# Altium schematic symbol library spacemonochrome-WR_TBL.SchLib: 1696 symbols (part 9 of 28)
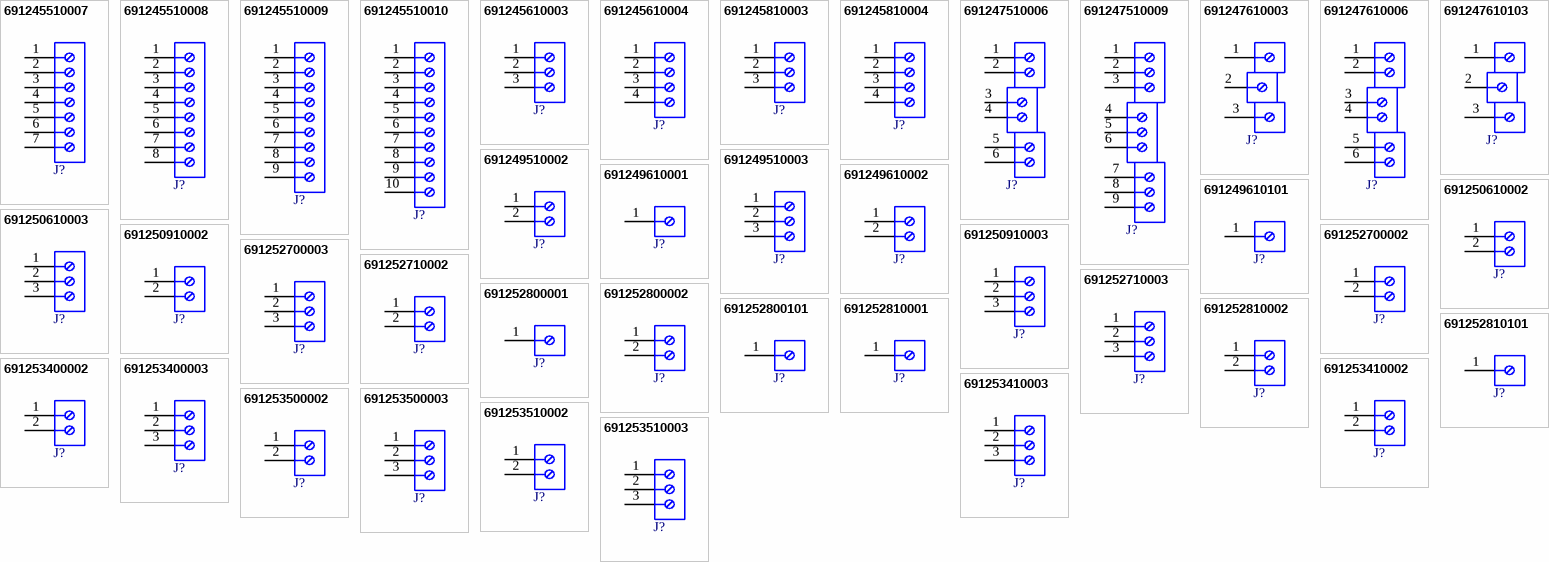
[diagram p50: symbols 691245510007 to 691253510003]

## 691252700002
designator J?  (value not drawn)
WR-TBL Series 2527 Vertical Entry Modular, THT, pitch 5mm, 2p; Manufacturer: Wurth Elektronik; Modularity: Yes; Rated Current: 16A; Working Voltage: 300V; ComponentLink1Description: Website Link; ComponentLink1URL: https://www.we-online.com/redexpert/article/691252700002?ad; ComponentLink2Description: Datasheet Link; ComponentLink2URL: https://www.we-online.com/redexpert/spec/691252700002?ad; Manufacturer Part Number: 691252700002; Category: Terminal Blocks; Match Code: WR-TBL; Mount: Through Hole; Operating Temperature Max: 120°C; Operating Temperature Min: -30°C; Packaging: Box; Application: Rising Cage Clamp; Number of Pins: 2; Number of Rows: 1; Orientation: Vertical; Pitch: 5mm
footprint 691252700002
pins: 1, 2

## 691252700003
designator J?  (value not drawn)
WR-TBL Series 2527 Vertical Entry Modular, THT, pitch 5mm, 3p; Manufacturer: Wurth Elektronik; Modularity: Yes; Rated Current: 16A; Working Voltage: 300V; ComponentLink1Description: Website Link; ComponentLink1URL: https://www.we-online.com/redexpert/article/691252700003?ad; ComponentLink2Description: Datasheet Link; ComponentLink2URL: https://www.we-online.com/redexpert/spec/691252700003?ad; Manufacturer Part Number: 691252700003; Category: Terminal Blocks; Match Code: WR-TBL; Mount: Through Hole; Operating Temperature Max: 120°C; Operating Temperature Min: -30°C; Packaging: Box; Application: Rising Cage Clamp; Number of Pins: 3; Number of Rows: 1; Orientation: Vertical; Pitch: 5mm
footprint 691252700003
pins: 1, 2, 3

## 691252710002
designator J?  (value not drawn)
WR-TBL Series 2527 Horizontal Entry Modular, THT, pitch 5mm, 2p; Manufacturer: Wurth Elektronik; Modularity: Yes; Rated Current: 16A; Working Voltage: 300V; ComponentLink1Description: Website Link; ComponentLink1URL: https://www.we-online.com/redexpert/article/691252710002?ad; ComponentLink2Description: Datasheet Link; ComponentLink2URL: https://www.we-online.com/redexpert/spec/691252710002?ad; Manufacturer Part Number: 691252710002; Category: Terminal Blocks; Match Code: WR-TBL; Mount: Through Hole; Operating Temperature Max: 120°C; Operating Temperature Min: -30°C; Packaging: Box; Application: Rising Cage Clamp; Number of Pins: 2; Number of Rows: 1; Orientation: Horizontal; Pitch: 5mm
footprint 691252710002
pins: 1, 2

## 691252710003
designator J?  (value not drawn)
WR-TBL Series 2527 Horizontal Entry Modular, THT, pitch 5mm, 3p; Manufacturer: Wurth Elektronik; Modularity: Yes; Rated Current: 16A; Working Voltage: 300V; ComponentLink1Description: Website Link; ComponentLink1URL: https://www.we-online.com/redexpert/article/691252710003?ad; ComponentLink2Description: Datasheet Link; ComponentLink2URL: https://www.we-online.com/redexpert/spec/691252710003?ad; Manufacturer Part Number: 691252710003; Category: Terminal Blocks; Match Code: WR-TBL; Mount: Through Hole; Operating Temperature Max: 120°C; Operating Temperature Min: -30°C; Packaging: Box; Application: Rising Cage Clamp; Number of Pins: 3; Number of Rows: 1; Orientation: Horizontal; Pitch: 5mm
footprint 691252710003
pins: 1, 2, 3

## 691252800001
designator J?  (value not drawn)
WR-TBL Series 2528 Vertical Entry Modular, THT, pitch 10mm, 1p; Manufacturer: Wurth Elektronik; Modularity: Yes; Rated Current: 16A; Working Voltage: 300V; ComponentLink1Description: Website Link; ComponentLink1URL: https://www.we-online.com/redexpert/article/691252800001?ad; ComponentLink2Description: Datasheet Link; ComponentLink2URL: https://www.we-online.com/redexpert/spec/691252800001?ad; Manufacturer Part Number: 691252800001; Category: Terminal Blocks; Match Code: WR-TBL; Mount: Through Hole; Operating Temperature Max: 120°C; Operating Temperature Min: -30°C; Packaging: Box; Application: Rising Cage Clamp; Number of Pins: 1; Number of Rows: 1; Orientation: Vertical; Pitch: 10mm
footprint 691252800001
pins: 1

## 691252800002
designator J?  (value not drawn)
WR-TBL Series 2528 Vertical Entry Modular, THT, pitch 10mm, 2p; Manufacturer: Wurth Elektronik; Modularity: Yes; Rated Current: 16A; Working Voltage: 300V; ComponentLink1Description: Website Link; ComponentLink1URL: https://www.we-online.com/redexpert/article/691252800002?ad; ComponentLink2Description: Datasheet Link; ComponentLink2URL: https://www.we-online.com/redexpert/spec/691252800002?ad; Manufacturer Part Number: 691252800002; Category: Terminal Blocks; Match Code: WR-TBL; Mount: Through Hole; Operating Temperature Max: 120°C; Operating Temperature Min: -30°C; Packaging: Box; Application: Rising Cage Clamp; Number of Pins: 2; Number of Rows: 1; Orientation: Vertical; Pitch: 10mm
footprint 691252800002
pins: 1, 2

## 691252800101
designator J?  (value not drawn)
WR-TBL Series 2528 Vertical Entry Modular, THT, pitch 10mm, 1p; Manufacturer: Wurth Elektronik; Modularity: Yes; Rated Current: 16A; Working Voltage: 300V; ComponentLink1Description: Website Link; ComponentLink1URL: https://www.we-online.com/redexpert/article/691252800101?ad; ComponentLink2Description: Datasheet Link; ComponentLink2URL: https://www.we-online.com/redexpert/spec/691252800101?ad; Manufacturer Part Number: 691252800101; Category: Terminal Blocks; Match Code: WR-TBL; Mount: Through Hole; Operating Temperature Max: 120°C; Operating Temperature Min: -30°C; Packaging: Box; Application: Rising Cage Clamp; Number of Pins: 1; Number of Rows: 1; Orientation: Vertical; Pitch: 10mm
footprint 691252800101
pins: 1

## 691252810001
designator J?  (value not drawn)
WR-TBL Series 2528 Horizontal Entry Modular, THT, pitch 10mm, 1p; Manufacturer: Wurth Elektronik; Modularity: Yes; Rated Current: 16A; Working Voltage: 300V; ComponentLink1Description: Website Link; ComponentLink1URL: https://www.we-online.com/redexpert/article/691252810001?ad; ComponentLink2Description: Datasheet Link; ComponentLink2URL: https://www.we-online.com/redexpert/spec/691252810001?ad; Manufacturer Part Number: 691252810001; Category: Terminal Blocks; Match Code: WR-TBL; Mount: Through Hole; Operating Temperature Max: 120°C; Operating Temperature Min: -30°C; Packaging: Box; Application: Rising Cage Clamp; Number of Pins: 1; Number of Rows: 1; Orientation: Horizontal; Pitch: 10mm
footprint 691252810001
pins: 1

## 691252810002
designator J?  (value not drawn)
WR-TBL Series 2528 Horizontal Entry Modular, THT, pitch 10mm, 2p; Manufacturer: Wurth Elektronik; Modularity: Yes; Rated Current: 16A; Working Voltage: 300V; ComponentLink1Description: Website Link; ComponentLink1URL: https://www.we-online.com/redexpert/article/691252810002?ad; ComponentLink2Description: Datasheet Link; ComponentLink2URL: https://www.we-online.com/redexpert/spec/691252810002?ad; Manufacturer Part Number: 691252810002; Category: Terminal Blocks; Match Code: WR-TBL; Mount: Through Hole; Operating Temperature Max: 120°C; Operating Temperature Min: -30°C; Packaging: Box; Application: Rising Cage Clamp; Number of Pins: 2; Number of Rows: 1; Orientation: Horizontal; Pitch: 10mm
footprint 691252810002
pins: 1, 2

## 691252810101
designator J?  (value not drawn)
WR-TBL Series 2528 Horizontal Entry Modular, THT, pitch 10mm, 1p; Manufacturer: Wurth Elektronik; Modularity: Yes; Rated Current: 16A; Working Voltage: 300V; ComponentLink1Description: Website Link; ComponentLink1URL: https://www.we-online.com/redexpert/article/691252810101?ad; ComponentLink2Description: Datasheet Link; ComponentLink2URL: https://www.we-online.com/redexpert/spec/691252810101?ad; Manufacturer Part Number: 691252810101; Category: Terminal Blocks; Match Code: WR-TBL; Mount: Through Hole; Operating Temperature Max: 120°C; Operating Temperature Min: -30°C; Packaging: Box; Application: Rising Cage Clamp; Number of Pins: 1; Number of Rows: 1; Orientation: Horizontal; Pitch: 10mm
footprint 691252810101
pins: 1

## 691253400002
designator J?  (value not drawn)
WR-TBL Series 2534 Vertical Entry Modular, THT, pitch 7.62mm, 2p; Manufacturer: Wurth Elektronik; Modularity: Yes; Rated Current: 16A; Working Voltage: 300V; ComponentLink1Description: Website Link; ComponentLink1URL: https://www.we-online.com/redexpert/article/691253400002?ad; ComponentLink2Description: Datasheet Link; ComponentLink2URL: https://www.we-online.com/redexpert/spec/691253400002?ad; Manufacturer Part Number: 691253400002; Category: Terminal Blocks; Match Code: WR-TBL; Mount: Through Hole; Operating Temperature Max: 120°C; Operating Temperature Min: -30°C; Packaging: Box; Application: Rising Cage Clamp; Number of Pins: 2; Number of Rows: 1; Orientation: Vertical; Pitch: 7.62mm
footprint 691253400002
pins: 1, 2

## 691253400003
designator J?  (value not drawn)
WR-TBL Series 2534 Vertical Entry Modular, THT, pitch 7.62mm, 3p; Manufacturer: Wurth Elektronik; Modularity: Yes; Rated Current: 16A; Working Voltage: 300V; ComponentLink1Description: Website Link; ComponentLink1URL: https://www.we-online.com/redexpert/article/691253400003?ad; ComponentLink2Description: Datasheet Link; ComponentLink2URL: https://www.we-online.com/redexpert/spec/691253400003?ad; Manufacturer Part Number: 691253400003; Category: Terminal Blocks; Match Code: WR-TBL; Mount: Through Hole; Operating Temperature Max: 120°C; Operating Temperature Min: -30°C; Packaging: Box; Application: Rising Cage Clamp; Number of Pins: 3; Number of Rows: 1; Orientation: Vertical; Pitch: 7.62mm
footprint 691253400003
pins: 1, 2, 3

## 691253410002
designator J?  (value not drawn)
WR-TBL Series 2534 Horizontal Entry Modular, THT, pitch 7.62mm, 2p; Manufacturer: Wurth Elektronik; Modularity: Yes; Rated Current: 16A; Working Voltage: 300V; ComponentLink1Description: Website Link; ComponentLink1URL: https://www.we-online.com/redexpert/article/691253410002?ad; ComponentLink2Description: Datasheet Link; ComponentLink2URL: https://www.we-online.com/redexpert/spec/691253410002?ad; Manufacturer Part Number: 691253410002; Category: Terminal Blocks; Match Code: WR-TBL; Mount: Through Hole; Operating Temperature Max: 120°C; Operating Temperature Min: -30°C; Packaging: Box; Application: Rising Cage Clamp; Number of Pins: 2; Number of Rows: 1; Orientation: Horizontal; Pitch: 7.62mm
footprint 691253410002
pins: 1, 2

## 691253410003
designator J?  (value not drawn)
WR-TBL Series 2534 Horizontal Entry Modular, THT, pitch 7.62mm, 3p; Manufacturer: Wurth Elektronik; Modularity: Yes; Rated Current: 16A; Working Voltage: 300V; ComponentLink1Description: Website Link; ComponentLink1URL: https://www.we-online.com/redexpert/article/691253410003?ad; ComponentLink2Description: Datasheet Link; ComponentLink2URL: https://www.we-online.com/redexpert/spec/691253410003?ad; Manufacturer Part Number: 691253410003; Category: Terminal Blocks; Match Code: WR-TBL; Mount: Through Hole; Operating Temperature Max: 120°C; Operating Temperature Min: -30°C; Packaging: Box; Application: Rising Cage Clamp; Number of Pins: 3; Number of Rows: 1; Orientation: Horizontal; Pitch: 7.62mm
footprint 691253410003
pins: 1, 2, 3

## 691253500002
designator J?  (value not drawn)
WR-TBL Series 2535 Vertical Entry Modular, THT, pitch 5.08mm, 2p; Manufacturer: Wurth Elektronik; Modularity: No; Rated Current: 16A; Working Voltage: 300V; ComponentLink1Description: Website Link; ComponentLink1URL: https://www.we-online.com/redexpert/article/691253500002?ad; ComponentLink2Description: Datasheet Link; ComponentLink2URL: https://www.we-online.com/redexpert/spec/691253500002?ad; Manufacturer Part Number: 691253500002; Category: Terminal Blocks; Match Code: WR-TBL; Mount: Through Hole; Operating Temperature Max: 120°C; Operating Temperature Min: -30°C; Packaging: Box; Application: Rising Cage Clamp; Number of Pins: 2; Number of Rows: 1; Orientation: Vertical; Pitch: 5.08mm
footprint 691253500002
pins: 1, 2

## 691253500003
designator J?  (value not drawn)
WR-TBL Series 2535 Vertical Entry Modular, THT, pitch 5.08mm, 3p; Manufacturer: Wurth Elektronik; Modularity: No; Rated Current: 16A; Working Voltage: 300V; ComponentLink1Description: Website Link; ComponentLink1URL: https://www.we-online.com/redexpert/article/691253500003?ad; ComponentLink2Description: Datasheet Link; ComponentLink2URL: https://www.we-online.com/redexpert/spec/691253500003?ad; Manufacturer Part Number: 691253500003; Category: Terminal Blocks; Match Code: WR-TBL; Mount: Through Hole; Operating Temperature Max: 120°C; Operating Temperature Min: -30°C; Packaging: Box; Application: Rising Cage Clamp; Number of Pins: 3; Number of Rows: 1; Orientation: Vertical; Pitch: 5.08mm
footprint 691253500003
pins: 1, 2, 3

## 691253510002
designator J?  (value not drawn)
WR-TBL Series 2535 Horizontal Entry Modular, THT, pitch 5.08mm, 2p; Manufacturer: Wurth Elektronik; Modularity: Yes; Rated Current: 16A; Working Voltage: 300V; ComponentLink1Description: Website Link; ComponentLink1URL: https://www.we-online.com/redexpert/article/691253510002?ad; ComponentLink2Description: Datasheet Link; ComponentLink2URL: https://www.we-online.com/redexpert/spec/691253510002?ad; Manufacturer Part Number: 691253510002; Category: Terminal Blocks; Match Code: WR-TBL; Mount: Through Hole; Operating Temperature Max: 120°C; Operating Temperature Min: -30°C; Packaging: Box; Application: Rising Cage Clamp; Number of Pins: 2; Number of Rows: 1; Orientation: Horizontal; Pitch: 5.08mm
footprint 691253510002
pins: 1, 2

## 691253510003
designator J?  (value not drawn)
WR-TBL Series 2535 Horizontal Entry Modular, THT, pitch 5.08mm, 3p; Manufacturer: Wurth Elektronik; Modularity: Yes; Rated Current: 16A; Working Voltage: 300V; ComponentLink1Description: Website Link; ComponentLink1URL: https://www.we-online.com/redexpert/article/691253510003?ad; ComponentLink2Description: Datasheet Link; ComponentLink2URL: https://www.we-online.com/redexpert/spec/691253510003?ad; Manufacturer Part Number: 691253510003; Category: Terminal Blocks; Match Code: WR-TBL; Mount: Through Hole; Operating Temperature Max: 120°C; Operating Temperature Min: -30°C; Packaging: Box; Application: Rising Cage Clamp; Number of Pins: 3; Number of Rows: 1; Orientation: Horizontal; Pitch: 5.08mm
footprint 691253510003
pins: 1, 2, 3

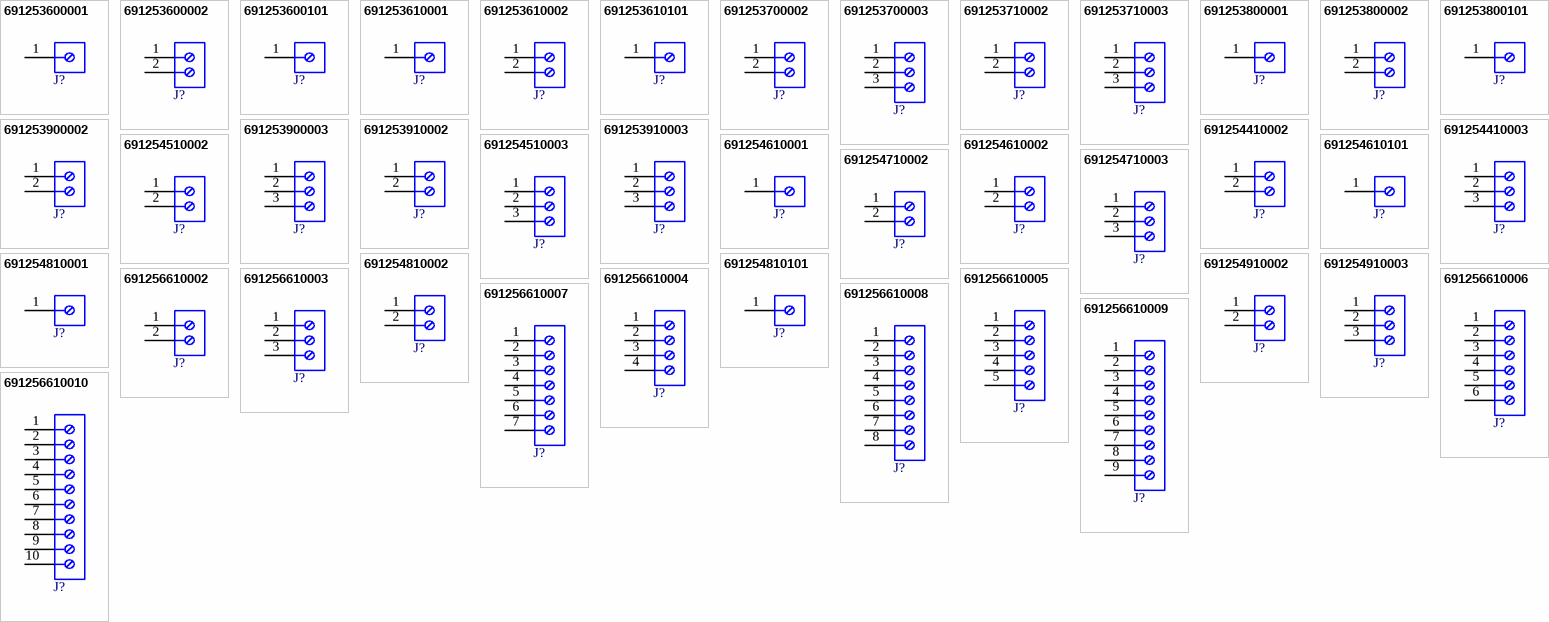
[diagram p13: symbols 691253600001 to 691256610010]

## 691253600001
designator J?  (value not drawn)
WR-TBL Series 2536 Vertical Entry Modular, THT, pitch 10.16mm, 1p; Manufacturer: Wurth Elektronik; Modularity: Yes; Rated Current: 16A; Working Voltage: 300V; ComponentLink1Description: Website Link; ComponentLink1URL: https://www.we-online.com/redexpert/article/691253600001?ad; ComponentLink2Description: Datasheet Link; ComponentLink2URL: https://www.we-online.com/redexpert/spec/691253600001?ad; Manufacturer Part Number: 691253600001; Category: Terminal Blocks; Match Code: WR-TBL; Mount: Through Hole; Operating Temperature Max: 120°C; Operating Temperature Min: -30°C; Packaging: Box; Application: Rising Cage Clamp; Number of Pins: 1; Number of Rows: 1; Orientation: Vertical; Pitch: 10.16mm
footprint 691253600001
pins: 1

## 691253600002
designator J?  (value not drawn)
WR-TBL Series 2536 Vertical Entry Modular, THT, pitch 10.16mm, 2p; Manufacturer: Wurth Elektronik; Modularity: Yes; Rated Current: 16A; Working Voltage: 300V; ComponentLink1Description: Website Link; ComponentLink1URL: https://www.we-online.com/redexpert/article/691253600002?ad; ComponentLink2Description: Datasheet Link; ComponentLink2URL: https://www.we-online.com/redexpert/spec/691253600002?ad; Manufacturer Part Number: 691253600002; Category: Terminal Blocks; Match Code: WR-TBL; Mount: Through Hole; Operating Temperature Max: 120°C; Operating Temperature Min: -30°C; Packaging: Box; Application: Rising Cage Clamp; Number of Pins: 2; Number of Rows: 1; Orientation: Vertical; Pitch: 10.16mm
footprint 691253600002
pins: 1, 2

## 691253600101
designator J?  (value not drawn)
WR-TBL Series 2536 Vertical Entry Modular, THT, pitch 10.16mm, 1p; Manufacturer: Wurth Elektronik; Modularity: Yes; Rated Current: 16A; Working Voltage: 300V; ComponentLink1Description: Website Link; ComponentLink1URL: https://www.we-online.com/redexpert/article/691253600101?ad; ComponentLink2Description: Datasheet Link; ComponentLink2URL: https://www.we-online.com/redexpert/spec/691253600101?ad; Manufacturer Part Number: 691253600101; Category: Terminal Blocks; Match Code: WR-TBL; Mount: Through Hole; Operating Temperature Max: 120°C; Operating Temperature Min: -30°C; Packaging: Box; Application: Rising Cage Clamp; Number of Pins: 1; Number of Rows: 1; Orientation: Vertical; Pitch: 10.16mm
footprint 691253600101
pins: 1

## 691253610001
designator J?  (value not drawn)
WR-TBL Series 2536 Horizontal Entry Modular, THT, pitch 10.16mm, 1p; Manufacturer: Wurth Elektronik; Modularity: Yes; Rated Current: 16A; Working Voltage: 300V; ComponentLink1Description: Website Link; ComponentLink1URL: https://www.we-online.com/redexpert/article/691253610001?ad; ComponentLink2Description: Datasheet Link; ComponentLink2URL: https://www.we-online.com/redexpert/spec/691253610001?ad; Manufacturer Part Number: 691253610001; Category: Terminal Blocks; Match Code: WR-TBL; Mount: Through Hole; Operating Temperature Max: 120°C; Operating Temperature Min: -30°C; Packaging: Box; Application: Rising Cage Clamp; Number of Pins: 1; Number of Rows: 1; Orientation: Horizontal; Pitch: 10.16mm
footprint 691253610001
pins: 1

## 691253610002
designator J?  (value not drawn)
WR-TBL Series 2536 Horizontal Entry Modular, THT, pitch 10.16mm, 2p; Manufacturer: Wurth Elektronik; Modularity: Yes; Rated Current: 16A; Working Voltage: 300V; ComponentLink1Description: Website Link; ComponentLink1URL: https://www.we-online.com/redexpert/article/691253610002?ad; ComponentLink2Description: Datasheet Link; ComponentLink2URL: https://www.we-online.com/redexpert/spec/691253610002?ad; Manufacturer Part Number: 691253610002; Category: Terminal Blocks; Match Code: WR-TBL; Mount: Through Hole; Operating Temperature Max: 120°C; Operating Temperature Min: -30°C; Packaging: Box; Application: Rising Cage Clamp; Number of Pins: 2; Number of Rows: 1; Orientation: Horizontal; Pitch: 10.16mm
footprint 691253610002
pins: 1, 2

## 691253610101
designator J?  (value not drawn)
WR-TBL Series 2536 Horizontal Entry Modular, THT, pitch 10.16mm, 1p; Manufacturer: Wurth Elektronik; Modularity: Yes; Rated Current: 16A; Working Voltage: 300V; ComponentLink1Description: Website Link; ComponentLink1URL: https://www.we-online.com/redexpert/article/691253610101?ad; ComponentLink2Description: Datasheet Link; ComponentLink2URL: https://www.we-online.com/redexpert/spec/691253610101?ad; Manufacturer Part Number: 691253610101; Category: Terminal Blocks; Match Code: WR-TBL; Mount: Through Hole; Operating Temperature Max: 120°C; Operating Temperature Min: -30°C; Packaging: Box; Application: Rising Cage Clamp; Number of Pins: 1; Number of Rows: 1; Orientation: Horizontal; Pitch: 10.16mm
footprint 691253610101
pins: 1

## 691253700002
designator J?  (value not drawn)
WR-TBL Series 2537 Vertical Entry Modular, THT, pitch 5mm, 2p; Manufacturer: Wurth Elektronik; Modularity: Yes; Rated Current: 16A; Working Voltage: 300V; ComponentLink1Description: Website Link; ComponentLink1URL: https://www.we-online.com/redexpert/article/691253700002?ad; ComponentLink2Description: Datasheet Link; ComponentLink2URL: https://www.we-online.com/redexpert/spec/691253700002?ad; Manufacturer Part Number: 691253700002; Category: Terminal Blocks; Match Code: WR-TBL; Mount: Through Hole; Operating Temperature Max: 120°C; Operating Temperature Min: -30°C; Packaging: Box; Application: Rising Cage Clamp; Number of Pins: 2; Number of Rows: 1; Orientation: Vertical; Pitch: 5mm
footprint 691253700002
pins: 1, 2

## 691253700003
designator J?  (value not drawn)
WR-TBL Series 2537 Vertical Entry Modular, THT, pitch 5mm, 3p; Manufacturer: Wurth Elektronik; Modularity: Yes; Rated Current: 16A; Working Voltage: 300V; ComponentLink1Description: Website Link; ComponentLink1URL: https://www.we-online.com/redexpert/article/691253700003?ad; ComponentLink2Description: Datasheet Link; ComponentLink2URL: https://www.we-online.com/redexpert/spec/691253700003?ad; Manufacturer Part Number: 691253700003; Category: Terminal Blocks; Match Code: WR-TBL; Mount: Through Hole; Operating Temperature Max: 120°C; Operating Temperature Min: -30°C; Packaging: Box; Application: Rising Cage Clamp; Number of Pins: 3; Number of Rows: 1; Orientation: Vertical; Pitch: 5mm
footprint 691253700003
pins: 1, 2, 3

## 691253710002
designator J?  (value not drawn)
WR-TBL Series 2537 Horizontal Entry Modular, THT, pitch 5mm, 2p; Manufacturer: Wurth Elektronik; Modularity: Yes; Rated Current: 16A; Working Voltage: 300V; ComponentLink1Description: Website Link; ComponentLink1URL: https://www.we-online.com/redexpert/article/691253710002?ad; ComponentLink2Description: Datasheet Link; ComponentLink2URL: https://www.we-online.com/redexpert/spec/691253710002?ad; Manufacturer Part Number: 691253710002; Category: Terminal Blocks; Match Code: WR-TBL; Mount: Through Hole; Operating Temperature Max: 120°C; Operating Temperature Min: -30°C; Packaging: Box; Application: Rising Cage Clamp; Number of Pins: 2; Number of Rows: 1; Orientation: Horizontal; Pitch: 5mm
footprint 691253710002
pins: 1, 2

## 691253710003
designator J?  (value not drawn)
WR-TBL Series 2537 Horizontal Entry Modular, THT, pitch 5mm, 3p; Manufacturer: Wurth Elektronik; Modularity: Yes; Rated Current: 16A; Working Voltage: 300V; ComponentLink1Description: Website Link; ComponentLink1URL: https://www.we-online.com/redexpert/article/691253710003?ad; ComponentLink2Description: Datasheet Link; ComponentLink2URL: https://www.we-online.com/redexpert/spec/691253710003?ad; Manufacturer Part Number: 691253710003; Category: Terminal Blocks; Match Code: WR-TBL; Mount: Through Hole; Operating Temperature Max: 120°C; Operating Temperature Min: -30°C; Packaging: Box; Application: Rising Cage Clamp; Number of Pins: 3; Number of Rows: 1; Orientation: Horizontal; Pitch: 5mm
footprint 691253710003
pins: 1, 2, 3

## 691253800001
designator J?  (value not drawn)
WR-TBL Series 2538 Vertical Entry Modular, THT, pitch 10mm, 1p; Manufacturer: Wurth Elektronik; Modularity: Yes; Rated Current: 16A; Working Voltage: 300V; ComponentLink1Description: Website Link; ComponentLink1URL: https://www.we-online.com/redexpert/article/691253800001?ad; ComponentLink2Description: Datasheet Link; ComponentLink2URL: https://www.we-online.com/redexpert/spec/691253800001?ad; Manufacturer Part Number: 691253800001; Category: Terminal Blocks; Match Code: WR-TBL; Mount: Through Hole; Operating Temperature Max: 120°C; Operating Temperature Min: -30°C; Packaging: Box; Application: Rising Cage Clamp; Number of Pins: 1; Number of Rows: 1; Orientation: Vertical; Pitch: 10mm
footprint 691253800001
pins: 1

## 691253800002
designator J?  (value not drawn)
WR-TBL Series 2538 Vertical Entry Modular, THT, pitch 10mm, 2p; Manufacturer: Wurth Elektronik; Modularity: Yes; Rated Current: 16A; Working Voltage: 300V; ComponentLink1Description: Website Link; ComponentLink1URL: https://www.we-online.com/redexpert/article/691253800002?ad; ComponentLink2Description: Datasheet Link; ComponentLink2URL: https://www.we-online.com/redexpert/spec/691253800002?ad; Manufacturer Part Number: 691253800002; Category: Terminal Blocks; Match Code: WR-TBL; Mount: Through Hole; Operating Temperature Max: 120°C; Operating Temperature Min: -30°C; Packaging: Box; Application: Rising Cage Clamp; Number of Pins: 2; Number of Rows: 1; Orientation: Vertical; Pitch: 10mm
footprint 691253800002
pins: 1, 2

## 691253800101
designator J?  (value not drawn)
WR-TBL Series 2538 Vertical Entry Modular, THT, pitch 10mm, 1p; Manufacturer: Wurth Elektronik; Modularity: Yes; Rated Current: 16A; Working Voltage: 300V; ComponentLink1Description: Website Link; ComponentLink1URL: https://www.we-online.com/redexpert/article/691253800101?ad; ComponentLink2Description: Datasheet Link; ComponentLink2URL: https://www.we-online.com/redexpert/spec/691253800101?ad; Manufacturer Part Number: 691253800101; Category: Terminal Blocks; Match Code: WR-TBL; Mount: Through Hole; Operating Temperature Max: 120°C; Operating Temperature Min: -30°C; Packaging: Box; Application: Rising Cage Clamp; Number of Pins: 1; Number of Rows: 1; Orientation: Vertical; Pitch: 10mm
footprint 691253800101
pins: 1

## 691253900002
designator J?  (value not drawn)
WR-TBL Series 2539 Vertical Entry Modular, THT, pitch 7.5mm, 2p; Manufacturer: Wurth Elektronik; Modularity: Yes; Rated Current: 16A; Working Voltage: 300V; ComponentLink1Description: Website Link; ComponentLink1URL: https://www.we-online.com/redexpert/article/691253900002?ad; ComponentLink2Description: Datasheet Link; ComponentLink2URL: https://www.we-online.com/redexpert/spec/691253900002?ad; Manufacturer Part Number: 691253900002; Category: Terminal Blocks; Match Code: WR-TBL; Mount: Through Hole; Operating Temperature Max: 120°C; Operating Temperature Min: -30°C; Packaging: Box; Application: Rising Cage Clamp; Number of Pins: 2; Number of Rows: 1; Orientation: Vertical; Pitch: 7.5mm
footprint 691253900002
pins: 1, 2

## 691253900003
designator J?  (value not drawn)
WR-TBL Series 2539 Vertical Entry Modular, THT, pitch 7.5mm, 3p; Manufacturer: Wurth Elektronik; Modularity: Yes; Rated Current: 16A; Working Voltage: 300V; ComponentLink1Description: Website Link; ComponentLink1URL: https://www.we-online.com/redexpert/article/691253900003?ad; ComponentLink2Description: Datasheet Link; ComponentLink2URL: https://www.we-online.com/redexpert/spec/691253900003?ad; Manufacturer Part Number: 691253900003; Category: Terminal Blocks; Match Code: WR-TBL; Mount: Through Hole; Operating Temperature Max: 120°C; Operating Temperature Min: -30°C; Packaging: Box; Application: Rising Cage Clamp; Number of Pins: 3; Number of Rows: 1; Orientation: Vertical; Pitch: 7.5mm
footprint 691253900003
pins: 1, 2, 3

## 691253910002
designator J?  (value not drawn)
WR-TBL Series 2539 Horizontal Entry Modular, THT, pitch 7.5mm, 2p; Manufacturer: Wurth Elektronik; Modularity: Yes; Rated Current: 16A; Working Voltage: 300V; ComponentLink1Description: Website Link; ComponentLink1URL: https://www.we-online.com/redexpert/article/691253910002?ad; ComponentLink2Description: Datasheet Link; ComponentLink2URL: https://www.we-online.com/redexpert/spec/691253910002?ad; Manufacturer Part Number: 691253910002; Category: Terminal Blocks; Match Code: WR-TBL; Mount: Through Hole; Operating Temperature Max: 120°C; Operating Temperature Min: -30°C; Packaging: Box; Application: Rising Cage Clamp; Number of Pins: 2; Number of Rows: 1; Orientation: Horizontal; Pitch: 7.5mm
footprint 691253910002
pins: 1, 2

## 691253910003
designator J?  (value not drawn)
WR-TBL Series 2539 Horizontal Entry Modular, THT, pitch 7.5mm, 3p; Manufacturer: Wurth Elektronik; Modularity: Yes; Rated Current: 16A; Working Voltage: 300V; ComponentLink1Description: Website Link; ComponentLink1URL: https://www.we-online.com/redexpert/article/691253910003?ad; ComponentLink2Description: Datasheet Link; ComponentLink2URL: https://www.we-online.com/redexpert/spec/691253910003?ad; Manufacturer Part Number: 691253910003; Category: Terminal Blocks; Match Code: WR-TBL; Mount: Through Hole; Operating Temperature Max: 120°C; Operating Temperature Min: -30°C; Packaging: Box; Application: Rising Cage Clamp; Number of Pins: 3; Number of Rows: 1; Orientation: Horizontal; Pitch: 7.5mm
footprint 691253910003
pins: 1, 2, 3

## 691254410002
designator J?  (value not drawn)
WR-TBL Series 2544 Horizontal Entry Dual Pin, THT, pitch 7.62mm, 2p; Manufacturer: Wurth Elektronik; Modularity: Yes; Rated Current: 16A; Working Voltage: 300V; ComponentLink1Description: Website Link; ComponentLink1URL: https://www.we-online.com/redexpert/article/691254410002?ad; ComponentLink2Description: Datasheet Link; ComponentLink2URL: https://www.we-online.com/redexpert/spec/691254410002?ad; Manufacturer Part Number: 691254410002; Category: Terminal Blocks; Match Code: WR-TBL; Mount: Through Hole; Operating Temperature Max: 120°C; Operating Temperature Min: -30°C; Packaging: Box; Application: Rising Cage Clamp; Number of Pins: 2; Number of Rows: 1; Orientation: Horizontal; Pitch: 7.62mm
footprint 691254410002
pins: 1, 2

## 691254410003
designator J?  (value not drawn)
WR-TBL Series 2544 Horizontal Entry Dual Pin, THT, pitch 7.62mm, 3p; Manufacturer: Wurth Elektronik; Modularity: Yes; Rated Current: 16A; Working Voltage: 300V; ComponentLink1Description: Website Link; ComponentLink1URL: https://www.we-online.com/redexpert/article/691254410003?ad; ComponentLink2Description: Datasheet Link; ComponentLink2URL: https://www.we-online.com/redexpert/spec/691254410003?ad; Manufacturer Part Number: 691254410003; Category: Terminal Blocks; Match Code: WR-TBL; Mount: Through Hole; Operating Temperature Max: 120°C; Operating Temperature Min: -30°C; Packaging: Box; Application: Rising Cage Clamp; Number of Pins: 3; Number of Rows: 1; Orientation: Horizontal; Pitch: 7.62mm
footprint 691254410003
pins: 1, 2, 3

## 691254510002
designator J?  (value not drawn)
WR-TBL Series 2545 Horizontal Cable Entry, THT, pitch 5.08mm, 2p; Manufacturer: Wurth Elektronik; Modularity: Yes; Rated Current: 16A; Working Voltage: 300V; ComponentLink1Description: Website Link; ComponentLink1URL: https://www.we-online.com/redexpert/article/691254510002?ad; ComponentLink2Description: Datasheet Link; ComponentLink2URL: https://www.we-online.com/redexpert/spec/691254510002?ad; Manufacturer Part Number: 691254510002; Category: Terminal Blocks; Match Code: WR-TBL; Mount: Through Hole; Operating Temperature Max: 120°C; Operating Temperature Min: -30°C; Packaging: Box; Application: Rising Cage Clamp; Number of Pins: 2; Number of Rows: 1; Orientation: Horizontal; Pitch: 5.08mm
footprint 691254510002
pins: 1, 2

## 691254510003
designator J?  (value not drawn)
WR-TBL Series 2545 Horizontal Cable Entry, THT, pitch 5.08mm, 3p; Manufacturer: Wurth Elektronik; Modularity: Yes; Rated Current: 16A; Working Voltage: 300V; ComponentLink1Description: Website Link; ComponentLink1URL: https://www.we-online.com/redexpert/article/691254510003?ad; ComponentLink2Description: Datasheet Link; ComponentLink2URL: https://www.we-online.com/redexpert/spec/691254510003?ad; Manufacturer Part Number: 691254510003; Category: Terminal Blocks; Match Code: WR-TBL; Mount: Through Hole; Operating Temperature Max: 120°C; Operating Temperature Min: -30°C; Packaging: Box; Application: Rising Cage Clamp; Number of Pins: 3; Number of Rows: 1; Orientation: Horizontal; Pitch: 5.08mm
footprint 691254510003
pins: 1, 2, 3

## 691254610001
designator J?  (value not drawn)
WR-TBL Series 2546 Horizontal Cable Entry, THT, pitch 10.16mm, 1p; Manufacturer: Wurth Elektronik; Modularity: Yes; Rated Current: 16A; Working Voltage: 300V; ComponentLink1Description: Website Link; ComponentLink1URL: https://www.we-online.com/redexpert/article/691254610001?ad; ComponentLink2Description: Datasheet Link; ComponentLink2URL: https://www.we-online.com/redexpert/spec/691254610001?ad; Manufacturer Part Number: 691254610001; Category: Terminal Blocks; Match Code: WR-TBL; Mount: Through Hole; Operating Temperature Max: 120°C; Operating Temperature Min: -30°C; Packaging: Box; Application: Rising Cage Clamp; Number of Pins: 1; Number of Rows: 1; Orientation: Horizontal; Pitch: 10.16mm
footprint 691254610001
pins: 1

## 691254610002
designator J?  (value not drawn)
WR-TBL Series 2546 Horizontal Cable Entry, THT, pitch 10.16mm, 2p; Manufacturer: Wurth Elektronik; Modularity: Yes; Rated Current: 16A; Working Voltage: 300V; ComponentLink1Description: Website Link; ComponentLink1URL: https://www.we-online.com/redexpert/article/691254610002?ad; ComponentLink2Description: Datasheet Link; ComponentLink2URL: https://www.we-online.com/redexpert/spec/691254610002?ad; Manufacturer Part Number: 691254610002; Category: Terminal Blocks; Match Code: WR-TBL; Mount: Through Hole; Operating Temperature Max: 120°C; Operating Temperature Min: -30°C; Packaging: Box; Application: Rising Cage Clamp; Number of Pins: 2; Number of Rows: 1; Orientation: Horizontal; Pitch: 10.16mm
footprint 691254610002
pins: 1, 2

## 691254610101
designator J?  (value not drawn)
WR-TBL Series 2546 Horizontal Cable Entry, THT, pitch 10.16mm, 1p; Manufacturer: Wurth Elektronik; Modularity: Yes; Rated Current: 16A; Working Voltage: 300V; ComponentLink1Description: Website Link; ComponentLink1URL: https://www.we-online.com/redexpert/article/691254610101?ad; ComponentLink2Description: Datasheet Link; ComponentLink2URL: https://www.we-online.com/redexpert/spec/691254610101?ad; Manufacturer Part Number: 691254610101; Category: Terminal Blocks; Match Code: WR-TBL; Mount: Through Hole; Operating Temperature Max: 120°C; Operating Temperature Min: -30°C; Packaging: Box; Application: Rising Cage Clamp; Number of Pins: 1; Number of Rows: 1; Orientation: Horizontal; Pitch: 10.16mm
footprint 691254610101
pins: 1

## 691254710002
designator J?  (value not drawn)
WR-TBL Series 2547 Horizontal Cable Entry, THT, pitch 5mm, 2p; Manufacturer: Wurth Elektronik; Modularity: Yes; Rated Current: 16A; Working Voltage: 300V; ComponentLink1Description: Website Link; ComponentLink1URL: https://www.we-online.com/redexpert/article/691254710002?ad; ComponentLink2Description: Datasheet Link; ComponentLink2URL: https://www.we-online.com/redexpert/spec/691254710002?ad; Manufacturer Part Number: 691254710002; Category: Terminal Blocks; Match Code: WR-TBL; Mount: Through Hole; Operating Temperature Max: 120°C; Operating Temperature Min: -30°C; Packaging: Box; Application: Rising Cage Clamp; Number of Pins: 2; Number of Rows: 1; Orientation: Horizontal; Pitch: 5mm
footprint 691254710002
pins: 1, 2

## 691254710003
designator J?  (value not drawn)
WR-TBL Series 2547 Horizontal Cable Entry, THT, pitch 5mm, 3p; Manufacturer: Wurth Elektronik; Modularity: Yes; Rated Current: 16A; Working Voltage: 300V; ComponentLink1Description: Website Link; ComponentLink1URL: https://www.we-online.com/redexpert/article/691254710003?ad; ComponentLink2Description: Datasheet Link; ComponentLink2URL: https://www.we-online.com/redexpert/spec/691254710003?ad; Manufacturer Part Number: 691254710003; Category: Terminal Blocks; Match Code: WR-TBL; Mount: Through Hole; Operating Temperature Max: 120°C; Operating Temperature Min: -30°C; Packaging: Box; Application: Rising Cage Clamp; Number of Pins: 3; Number of Rows: 1; Orientation: Horizontal; Pitch: 5mm
footprint 691254710003
pins: 1, 2, 3

## 691254810001
designator J?  (value not drawn)
WR-TBL Series 2548 Horizontal Cable Entry, THT, pitch 10mm, 1p; Manufacturer: Wurth Elektronik; Modularity: Yes; Rated Current: 16A; Working Voltage: 300V; ComponentLink1Description: Website Link; ComponentLink1URL: https://www.we-online.com/redexpert/article/691254810001?ad; ComponentLink2Description: Datasheet Link; ComponentLink2URL: https://www.we-online.com/redexpert/spec/691254810001?ad; Manufacturer Part Number: 691254810001; Category: Terminal Blocks; Match Code: WR-TBL; Mount: Through Hole; Operating Temperature Max: 120°C; Operating Temperature Min: -30°C; Packaging: Box; Application: Rising Cage Clamp; Number of Pins: 1; Number of Rows: 1; Orientation: Horizontal; Pitch: 10mm
footprint 691254810001
pins: 1

## 691254810002
designator J?  (value not drawn)
WR-TBL Series 2548 Horizontal Cable Entry, THT, pitch 10mm, 2p; Manufacturer: Wurth Elektronik; Modularity: Yes; Rated Current: 16A; Working Voltage: 300V; ComponentLink1Description: Website Link; ComponentLink1URL: https://www.we-online.com/redexpert/article/691254810002?ad; ComponentLink2Description: Datasheet Link; ComponentLink2URL: https://www.we-online.com/redexpert/spec/691254810002?ad; Manufacturer Part Number: 691254810002; Category: Terminal Blocks; Match Code: WR-TBL; Mount: Through Hole; Operating Temperature Max: 120°C; Operating Temperature Min: -30°C; Packaging: Box; Application: Rising Cage Clamp; Number of Pins: 2; Number of Rows: 1; Orientation: Horizontal; Pitch: 10mm
footprint 691254810002
pins: 1, 2

## 691254810101
designator J?  (value not drawn)
WR-TBL Series 2548 Horizontal Cable Entry, THT, pitch 10mm, 1p; Manufacturer: Wurth Elektronik; Modularity: Yes; Rated Current: 16A; Working Voltage: 300V; ComponentLink1Description: Website Link; ComponentLink1URL: https://www.we-online.com/redexpert/article/691254810101?ad; ComponentLink2Description: Datasheet Link; ComponentLink2URL: https://www.we-online.com/redexpert/spec/691254810101?ad; Manufacturer Part Number: 691254810101; Category: Terminal Blocks; Match Code: WR-TBL; Mount: Through Hole; Operating Temperature Max: 120°C; Operating Temperature Min: -30°C; Packaging: Box; Application: Rising Cage Clamp; Number of Pins: 1; Number of Rows: 1; Orientation: Horizontal; Pitch: 10mm
footprint 691254810101
pins: 1

## 691254910002
designator J?  (value not drawn)
WR-TBL Series 2549 Horizontal Cable Entry, THT, pitch 7.5mm, 2p; Manufacturer: Wurth Elektronik; Modularity: Yes; Rated Current: 16A; Working Voltage: 300V; ComponentLink1Description: Website Link; ComponentLink1URL: https://www.we-online.com/redexpert/article/691254910002?ad; ComponentLink2Description: Datasheet Link; ComponentLink2URL: https://www.we-online.com/redexpert/spec/691254910002?ad; Manufacturer Part Number: 691254910002; Category: Terminal Blocks; Match Code: WR-TBL; Mount: Through Hole; Operating Temperature Max: 120°C; Operating Temperature Min: -30°C; Packaging: Box; Application: Rising Cage Clamp; Number of Pins: 2; Number of Rows: 1; Orientation: Horizontal; Pitch: 7.5mm
footprint 691254910002
pins: 1, 2

## 691254910003
designator J?  (value not drawn)
WR-TBL Series 2549 Horizontal Cable Entry, THT, pitch 7.5mm, 3p; Manufacturer: Wurth Elektronik; Modularity: Yes; Rated Current: 16A; Working Voltage: 300V; ComponentLink1Description: Website Link; ComponentLink1URL: https://www.we-online.com/redexpert/article/691254910003?ad; ComponentLink2Description: Datasheet Link; ComponentLink2URL: https://www.we-online.com/redexpert/spec/691254910003?ad; Manufacturer Part Number: 691254910003; Category: Terminal Blocks; Match Code: WR-TBL; Mount: Through Hole; Operating Temperature Max: 120°C; Operating Temperature Min: -30°C; Packaging: Box; Application: Rising Cage Clamp; Number of Pins: 3; Number of Rows: 1; Orientation: Horizontal; Pitch: 7.5mm
footprint 691254910003
pins: 1, 2, 3

## 691256610002
designator J?  (value not drawn)
WR-TBL Series 2566 Horizontal Entry, THT, pitch 10.16mm, 2p; Manufacturer: Wurth Elektronik; Modularity: No; Rated Current: 40A; Working Voltage: 300V; ComponentLink1Description: Website Link; ComponentLink1URL: https://www.we-online.com/redexpert/article/691256610002?ad; ComponentLink2Description: Datasheet Link; ComponentLink2URL: https://www.we-online.com/redexpert/spec/691256610002?ad; Manufacturer Part Number: 691256610002; Category: Terminal Blocks; Match Code: WR-TBL; Mount: Through Hole; Operating Temperature Max: 120°C; Operating Temperature Min: -30°C; Packaging: Box; Application: Rising Cage Clamp; Number of Pins: 2; Number of Rows: 1; Orientation: Horizontal; Pitch: 10.16mm
footprint 691256610002
pins: 1, 2

## 691256610003
designator J?  (value not drawn)
WR-TBL Series 2566 Horizontal Entry, THT, pitch 10.16mm, 3p; Manufacturer: Wurth Elektronik; Modularity: No; Rated Current: 40A; Working Voltage: 300V; ComponentLink1Description: Website Link; ComponentLink1URL: https://www.we-online.com/redexpert/article/691256610003?ad; ComponentLink2Description: Datasheet Link; ComponentLink2URL: https://www.we-online.com/redexpert/spec/691256610003?ad; Manufacturer Part Number: 691256610003; Category: Terminal Blocks; Match Code: WR-TBL; Mount: Through Hole; Operating Temperature Max: 120°C; Operating Temperature Min: -30°C; Packaging: Box; Application: Rising Cage Clamp; Number of Pins: 3; Number of Rows: 1; Orientation: Horizontal; Pitch: 10.16mm
footprint 691256610003
pins: 1, 2, 3

## 691256610004
designator J?  (value not drawn)
WR-TBL Series 2566 Horizontal Entry, THT, pitch 10.16mm, 4p; Manufacturer: Wurth Elektronik; Modularity: No; Rated Current: 40A; Working Voltage: 300V; ComponentLink1Description: Website Link; ComponentLink1URL: https://www.we-online.com/redexpert/article/691256610004?ad; ComponentLink2Description: Datasheet Link; ComponentLink2URL: https://www.we-online.com/redexpert/spec/691256610004?ad; Manufacturer Part Number: 691256610004; Category: Terminal Blocks; Match Code: WR-TBL; Mount: Through Hole; Operating Temperature Max: 120°C; Operating Temperature Min: -30°C; Packaging: Box; Application: Rising Cage Clamp; Number of Pins: 4; Number of Rows: 1; Orientation: Horizontal; Pitch: 10.16mm
footprint 691256610004
pins: 1, 2, 3, 4

## 691256610005
designator J?  (value not drawn)
WR-TBL Series 2566 Horizontal Entry, THT, pitch 10.16mm, 5p; Manufacturer: Wurth Elektronik; Modularity: No; Rated Current: 40A; Working Voltage: 300V; ComponentLink1Description: Website Link; ComponentLink1URL: https://www.we-online.com/redexpert/article/691256610005?ad; ComponentLink2Description: Datasheet Link; ComponentLink2URL: https://www.we-online.com/redexpert/spec/691256610005?ad; Manufacturer Part Number: 691256610005; Category: Terminal Blocks; Match Code: WR-TBL; Mount: Through Hole; Operating Temperature Max: 120°C; Operating Temperature Min: -30°C; Packaging: Box; Application: Rising Cage Clamp; Number of Pins: 5; Number of Rows: 1; Orientation: Horizontal; Pitch: 10.16mm
footprint 691256610005
pins: 1, 2, 3, 4, 5

## 691256610006
designator J?  (value not drawn)
WR-TBL Series 2566 Horizontal Entry, THT, pitch 10.16mm, 6p; Manufacturer: Wurth Elektronik; Modularity: No; Rated Current: 40A; Working Voltage: 300V; ComponentLink1Description: Website Link; ComponentLink1URL: https://www.we-online.com/redexpert/article/691256610006?ad; ComponentLink2Description: Datasheet Link; ComponentLink2URL: https://www.we-online.com/redexpert/spec/691256610006?ad; Manufacturer Part Number: 691256610006; Category: Terminal Blocks; Match Code: WR-TBL; Mount: Through Hole; Operating Temperature Max: 120°C; Operating Temperature Min: -30°C; Packaging: Box; Application: Rising Cage Clamp; Number of Pins: 6; Number of Rows: 1; Orientation: Horizontal; Pitch: 10.16mm
footprint 691256610006
pins: 1, 2, 3, 4, 5, 6

## 691256610007
designator J?  (value not drawn)
WR-TBL Series 2566 Horizontal Entry, THT, pitch 10.16mm, 7p; Manufacturer: Wurth Elektronik; Modularity: No; Rated Current: 40A; Working Voltage: 300V; ComponentLink1Description: Website Link; ComponentLink1URL: https://www.we-online.com/redexpert/article/691256610007?ad; ComponentLink2Description: Datasheet Link; ComponentLink2URL: https://www.we-online.com/redexpert/spec/691256610007?ad; Manufacturer Part Number: 691256610007; Category: Terminal Blocks; Match Code: WR-TBL; Mount: Through Hole; Operating Temperature Max: 120°C; Operating Temperature Min: -30°C; Packaging: Box; Application: Rising Cage Clamp; Number of Pins: 7; Number of Rows: 1; Orientation: Horizontal; Pitch: 10.16mm
footprint 691256610007
pins: 1, 2, 3, 4, 5, 6, 7

## 691256610008
designator J?  (value not drawn)
WR-TBL Series 2566 Horizontal Entry, THT, pitch 10.16mm, 8p; Manufacturer: Wurth Elektronik; Modularity: No; Rated Current: 40A; Working Voltage: 300V; ComponentLink1Description: Website Link; ComponentLink1URL: https://www.we-online.com/redexpert/article/691256610008?ad; ComponentLink2Description: Datasheet Link; ComponentLink2URL: https://www.we-online.com/redexpert/spec/691256610008?ad; Manufacturer Part Number: 691256610008; Category: Terminal Blocks; Match Code: WR-TBL; Mount: Through Hole; Operating Temperature Max: 120°C; Operating Temperature Min: -30°C; Packaging: Box; Application: Rising Cage Clamp; Number of Pins: 8; Number of Rows: 1; Orientation: Horizontal; Pitch: 10.16mm
footprint 691256610008
pins: 1, 2, 3, 4, 5, 6, 7, 8

## 691256610009
designator J?  (value not drawn)
WR-TBL Series 2566 Horizontal Entry, THT, pitch 10.16mm, 9p; Manufacturer: Wurth Elektronik; Modularity: No; Rated Current: 40A; Working Voltage: 300V; ComponentLink1Description: Website Link; ComponentLink1URL: https://www.we-online.com/redexpert/article/691256610009?ad; ComponentLink2Description: Datasheet Link; ComponentLink2URL: https://www.we-online.com/redexpert/spec/691256610009?ad; Manufacturer Part Number: 691256610009; Category: Terminal Blocks; Match Code: WR-TBL; Mount: Through Hole; Operating Temperature Max: 120°C; Operating Temperature Min: -30°C; Packaging: Box; Application: Rising Cage Clamp; Number of Pins: 9; Number of Rows: 1; Orientation: Horizontal; Pitch: 10.16mm
footprint 691256610009
pins: 1, 2, 3, 4, 5, 6, 7, 8, 9

## 691256610010
designator J?  (value not drawn)
WR-TBL Series 2566 Horizontal Entry, THT, pitch 10.16mm, 10p; Manufacturer: Wurth Elektronik; Modularity: No; Rated Current: 40A; Working Voltage: 300V; ComponentLink1Description: Website Link; ComponentLink1URL: https://www.we-online.com/redexpert/article/691256610010?ad; ComponentLink2Description: Datasheet Link; ComponentLink2URL: https://www.we-online.com/redexpert/spec/691256610010?ad; Manufacturer Part Number: 691256610010; Category: Terminal Blocks; Match Code: WR-TBL; Mount: Through Hole; Operating Temperature Max: 120°C; Operating Temperature Min: -30°C; Packaging: Box; Application: Rising Cage Clamp; Number of Pins: 10; Number of Rows: 1; Orientation: Horizontal; Pitch: 10.16mm
footprint 691256610010
pins: 1, 2, 3, 4, 5, 6, 7, 8, 9, 10

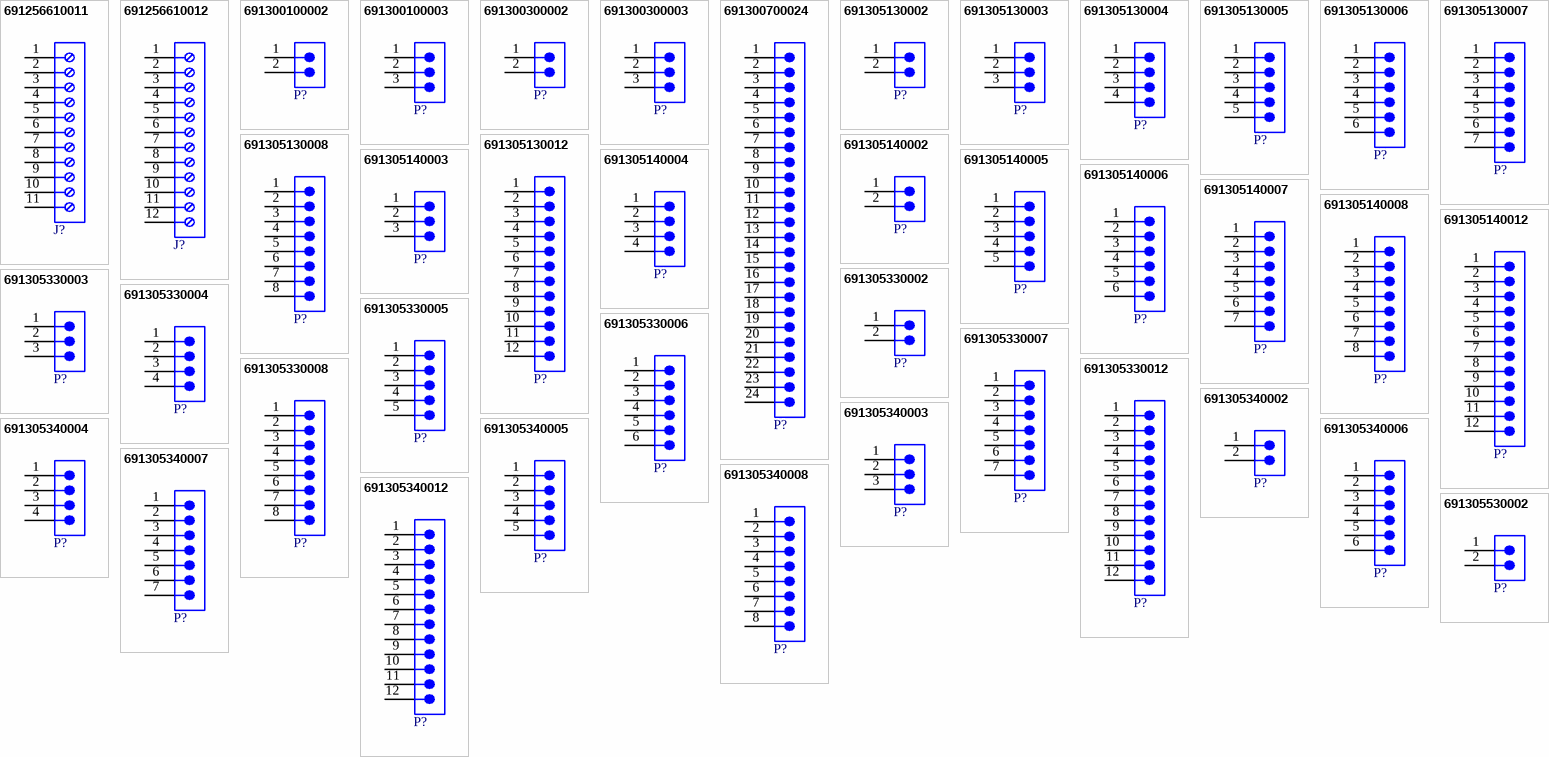
[diagram p14: symbols 691256610011 to 691305530002]

## 691256610011
designator J?  (value not drawn)
WR-TBL Series 2566 Horizontal Entry, THT, pitch 10.16mm, 11p; Manufacturer: Wurth Elektronik; Modularity: No; Rated Current: 40A; Working Voltage: 300V; ComponentLink1Description: Website Link; ComponentLink1URL: https://www.we-online.com/redexpert/article/691256610011?ad; ComponentLink2Description: Datasheet Link; ComponentLink2URL: https://www.we-online.com/redexpert/spec/691256610011?ad; Manufacturer Part Number: 691256610011; Category: Terminal Blocks; Match Code: WR-TBL; Mount: Through Hole; Operating Temperature Max: 120°C; Operating Temperature Min: -30°C; Packaging: Box; Application: Rising Cage Clamp; Number of Pins: 11; Number of Rows: 1; Orientation: Horizontal; Pitch: 10.16mm
footprint 691256610011
pins: 1, 2, 3, 4, 5, 6, 7, 8, 9, 10, 11

## 691256610012
designator J?  (value not drawn)
WR-TBL Series 2566 Horizontal Entry, THT, pitch 10.16mm, 12p; Manufacturer: Wurth Elektronik; Modularity: No; Rated Current: 40A; Working Voltage: 300V; ComponentLink1Description: Website Link; ComponentLink1URL: https://www.we-online.com/redexpert/article/691256610012?ad; ComponentLink2Description: Datasheet Link; ComponentLink2URL: https://www.we-online.com/redexpert/spec/691256610012?ad; Manufacturer Part Number: 691256610012; Category: Terminal Blocks; Match Code: WR-TBL; Mount: Through Hole; Operating Temperature Max: 120°C; Operating Temperature Min: -30°C; Packaging: Box; Application: Rising Cage Clamp; Number of Pins: 12; Number of Rows: 1; Orientation: Horizontal; Pitch: 10.16mm
footprint 691256610012
pins: 1, 2, 3, 4, 5, 6, 7, 8, 9, 10, 11, 12

## 691300100002
designator P?  (value not drawn)
WR-TBL Series 3001 Pin Header Vertical cable entry, THT, pitch 3.5mm, 2p; Manufacturer: Wurth Elektronik; Modularity: Yes; Rated Current: 10A; Working Voltage: 300V; Manufacturer Part Number: 691300100002; Category: Terminal Blocks; Match Code: WR-TBL; ComponentLink1Description: Website Link; ComponentLink1URL: https://www.we-online.com/redexpert/article/691300100002?ad; ComponentLink2Description: Datasheet Link; ComponentLink2URL: https://www.we-online.com/redexpert/spec/691300100002?ad; Mount: Through Hole; Operating Temperature Max: 115°C; Operating Temperature Min: -40°C; Packaging: Carton; Application: Pluggable; Number of Pins: 2; Number of Rows: 1; Orientation: Vertical Cable Entry; Pitch: 3.5mm
footprint 691300100002
pins: 1, 2

## 691300100003
designator P?  (value not drawn)
WR-TBL Series 3001 Pin Header Vertical cable entry, THT, pitch 3.5mm, 3p; Manufacturer: Wurth Elektronik; Modularity: Yes; Rated Current: 10A; Working Voltage: 300V; Manufacturer Part Number: 691300100003; Category: Terminal Blocks; Match Code: WR-TBL; ComponentLink1Description: Website Link; ComponentLink1URL: https://www.we-online.com/redexpert/article/691300100003?ad; ComponentLink2Description: Datasheet Link; ComponentLink2URL: https://www.we-online.com/redexpert/spec/691300100003?ad; Mount: Through Hole; Operating Temperature Max: 115°C; Operating Temperature Min: -40°C; Packaging: Carton; Application: Pluggable; Number of Pins: 3; Number of Rows: 1; Orientation: Vertical Cable Entry; Pitch: 3.5mm
footprint 691300100003
pins: 1, 2, 3

## 691300300002
designator P?  (value not drawn)
WR-TBL Series 3003 Pin Header Vertical cable entry, THT, pitch 3.81mm, 2p; Manufacturer: Wurth Elektronik; Modularity: Yes; Rated Current: 10A; Working Voltage: 300V; Manufacturer Part Number: 691300300002; Category: Terminal Blocks; Match Code: WR-TBL; ComponentLink1Description: Website Link; ComponentLink1URL: https://www.we-online.com/redexpert/article/691300300002?ad; ComponentLink2Description: Datasheet Link; ComponentLink2URL: https://www.we-online.com/redexpert/spec/691300300002?ad; Mount: Through Hole; Operating Temperature Max: 115°C; Operating Temperature Min: -40°C; Packaging: Carton; Application: Pluggable; Number of Pins: 2; Number of Rows: 1; Orientation: Vertical Cable Entry; Pitch: 3.81mm
footprint 691300300002
pins: 1, 2